# EAGLE library part XFMR_DUAL_SEC (library wheat)
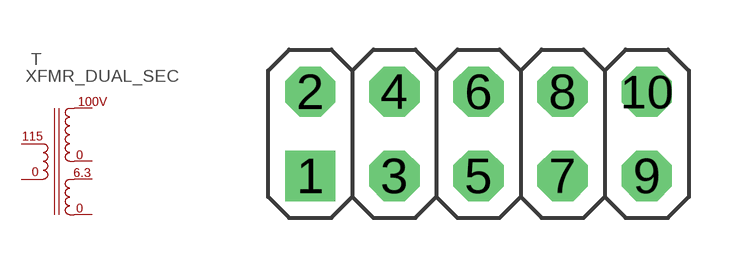
[diagram p210: symbol with the pads of HDR5X2; footprint HDR5X2]

Designator prefix T

## XFMR_DUAL_SEC  [HDR5X2]
1  P1  pas
2  P2  pas
3  S1  pas
4  S2  pas
5  S10  pas
6  S11  pas

## Footprint HDR5X2 (pad centres in mm)
HEADER 5X2
drill 1.016 square: 1 0,-2.54
drill 1.016 octagon: 2 0,0; 3 2.54,-2.54; 4 2.54,0; 5 5.08,-2.54; 6 5.08,0; 7 7.62,-2.54; 8 7.62,0; 9 10.16,-2.54; 10 10.16,0